# Altium schematic symbol library usb_a.Schlib: 1 symbol
Pins are listed as number, name and electrical type; pins without a type are passive.

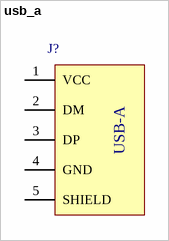
[diagram p0: symbol usb_a]

## usb_a
designator J?  (value not drawn)
USB type A jack
pins: 1 VCC, 2 DM, 3 DP, 4 GND, 5 SHIELD
text: USB-A